# Altium footprint library TS026650BK260LCRD.PcbLib: 1 footprints
Each footprint in its own frame and in the unit in brackets; x right, y up, seen from the top. Pads: shape width x height; smd on the part's side, far side on the other; paste and mask are expansions set on the pad; w line width, h text height; cw(c..) or ccw(c..) is an arc to the next point about the centre after c.
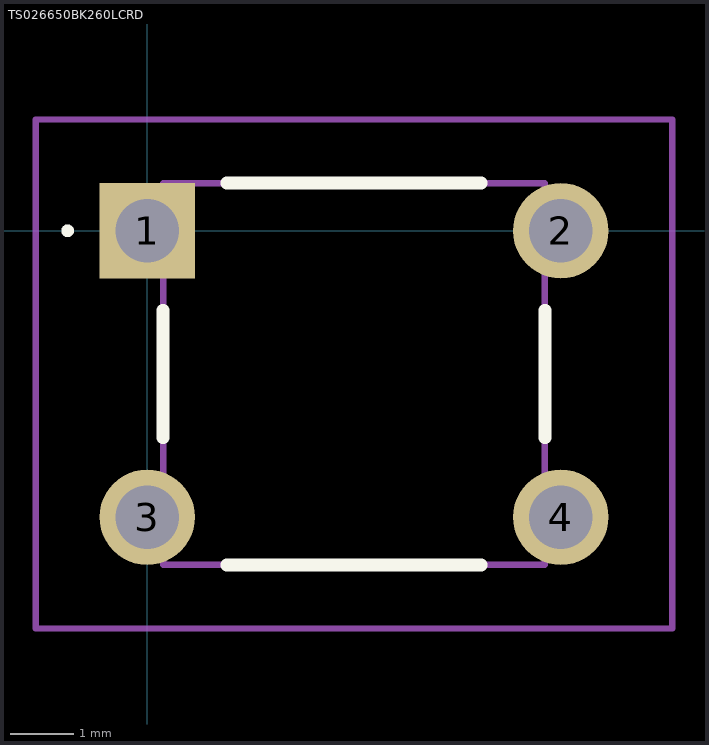
[diagram p0: the footprint, top view; thin cyan lines are the x and y axes]

## TS026650BK260LCRD [mm]
pads (4):
  rect 1.5x1.5 hole 1: 1(0,0)
  round 1.5 hole 1: 2(6.5,0) 3(0,-4.5) 4(6.5,-4.5)
Top Overlay:
  lines w0.1: -1.3,0 -1.3,0 ; -1.3,0 ccw(c-1.25,0) -1.2,0 ; -1.3,0 cw(c-1.25,0) -1.2,0 ; -1.3,0 -1.3,0 ; -1.3,0 ccw(c-1.25,0) -1.2,0 ; -1.2,0 -1.2,0
  lines w0.2: 0.25,-3.25 0.25,-1.25 ; 1.25,-5.25 5.25,-5.25 ; 1.25,0.75 5.25,0.75 ; 6.25,-3.25 6.25,-1.25
Mechanical 15:
  lines w0.1: 0.25,-5.25 6.25,-5.25 6.25,0.75 0.25,0.75 0.25,-5.25
Mechanical 20:
  lines w0.1: -1.75,-6.25 8.25,-6.25 8.25,1.75 -1.75,1.75 -1.75,-6.25